# EAGLE library part GEERT (library LT3496)
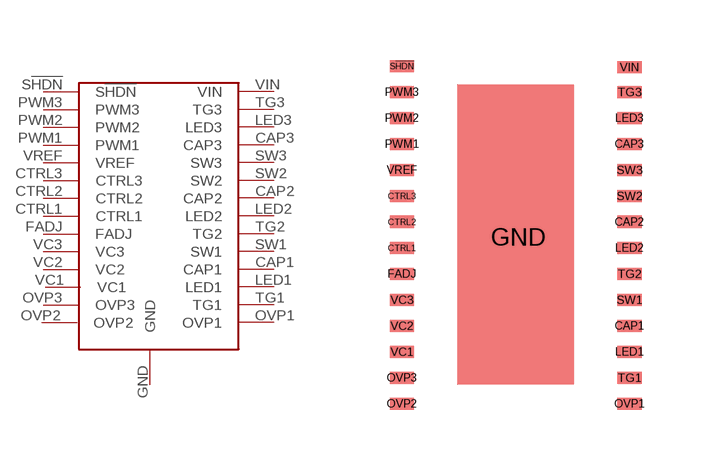
[diagram p0: symbol with the pads of ST7540; footprint ST7540]

Designator prefix -

## GEERT  [ST7540]
CAP1  CAP1
CAP2  CAP2
CAP3  CAP3
CTRL1  CTRL1
CTRL2  CTRL2
CTRL3  CTRL3
FADJ  FADJ
GND  GND
LED1  LED1
LED2  LED2
LED3  LED3
OVP1  OVP1
OVP2  OVP2
OVP3  OVP3
PWM1  PWM1
PWM2  PWM2
PWM3  PWM3
S!HDN  S!HDN
SW1  SW1
SW2  SW2
SW3  SW3
TG1  TG1
TG2  TG2
TG3  TG3
VC1  VC1
VC2  VC2
VC3  VC3
VIN  VIN
VREF  VREF

## Footprint ST7540 (pad centres in mm)
smd 0.61 x 0.305: CAP1 2.783,-2.219; CAP2 2.783,0.381; CAP3 2.783,2.331; CTRL1 -2.91,-0.269; CTRL2 -2.91,0.381; CTRL3 -2.91,1.031; FADJ -2.91,-0.919; LED1 2.783,-2.869; LED2 2.783,-0.269; LED3 2.783,2.981; OVP1 2.783,-4.169; OVP2 -2.91,-4.169; OVP3 -2.91,-3.519; PWM1 -2.91,2.331; PWM2 -2.91,2.981; PWM3 -2.91,3.631; S!HDN -2.91,4.281; SW1 2.783,-1.569; SW2 2.783,1.031; SW3 2.783,1.681; TG1 2.783,-3.519; TG2 2.783,-0.919; TG3 2.783,3.631; VC1 -2.91,-2.869; VC2 -2.91,-2.219; VC3 -2.91,-1.569; VIN 2.783,4.256; VREF -2.91,1.681
smd 1.27 x 0.635: GND 0,0